# Altium schematic symbol library 74S11.SchLib: 1 symbol
Pins are listed as number, name and electrical type; pins without a type are passive.

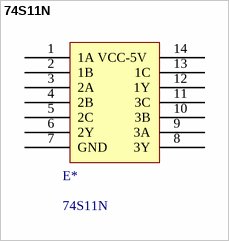
[diagram p0: symbol 74S11N]

## 74S11N
designator E*
Supplier 1: Rochester Electronics; Supplier Part Number 1: SN74S11N
footprint DIP14
pins: 1 1A, 2 1B, 3 2A, 4 2B, 5 2C, 6 2Y, 7 GND, 8 3Y, 9 3A, 10 3B, 11 3C, 12 1Y, 13 1C, 14 VCC-5V 